# Altium footprint library pads.PcbLib: 11 footprints
Each footprint in its own frame and in the unit in brackets; x right, y up, seen from the top. Pads: shape width x height; smd on the part's side, far side on the other; paste and mask are expansions set on the pad; w line width, h text height; cw(c..) or ccw(c..) is an arc to the next point about the centre after c.
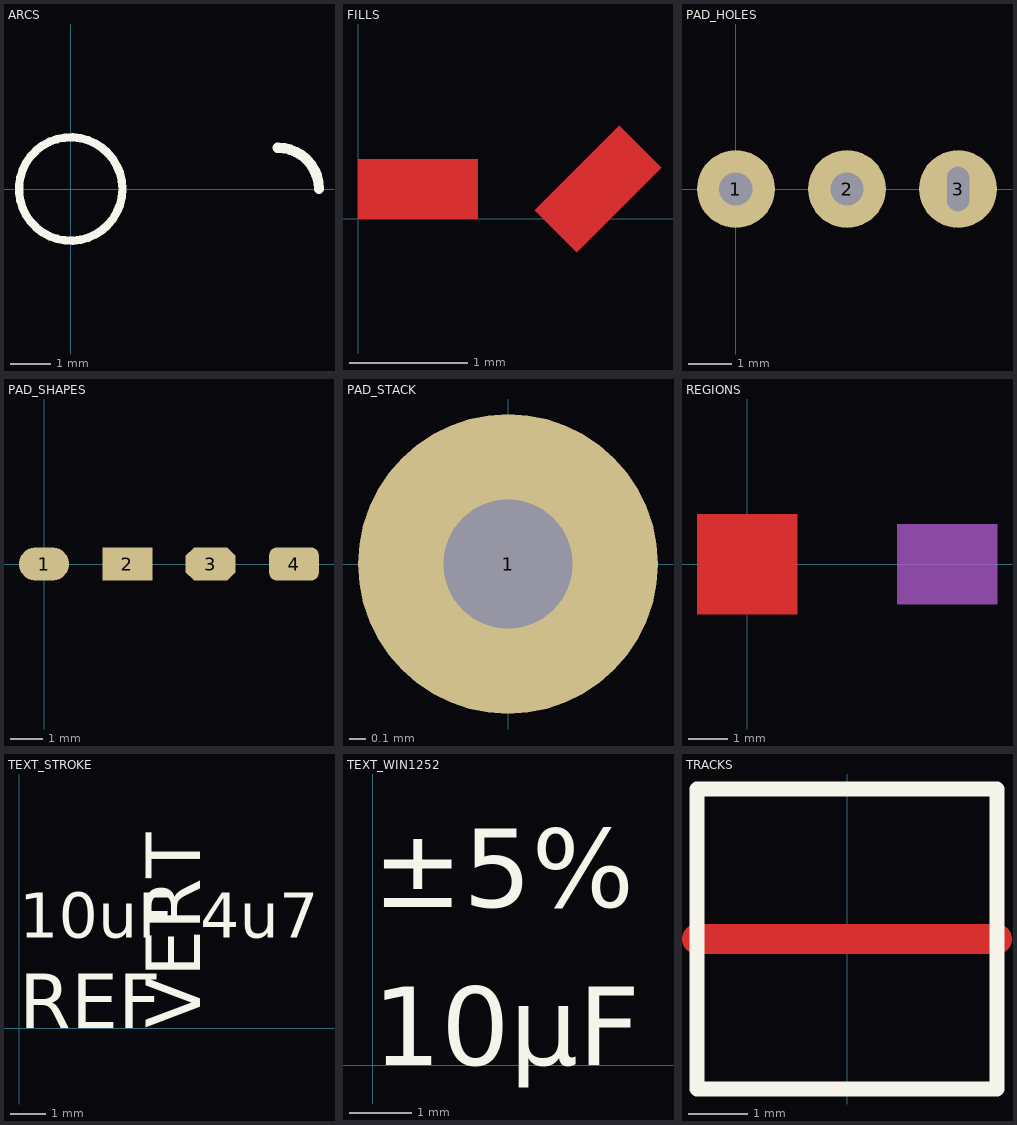
[diagram p0: the footprints below, top view; thin cyan lines are the x and y axes]

## ARCS [mil]
Top Overlay:
  circle w8: c0,0 r50
  lines w10: 200,40 cw(c200,0) 240,0

## BODY3D [mil]
3D body: height 40, standoff 0, extent -50,-30 50,30

## FILLS [mil]
Top Layer:
  rectangle: 0,0 40,20
  region: 72.93,-11.21 101.21,17.07 87.07,31.21 58.79,2.93

## PAD_HOLES [mil]
pads (3):
  round 70 hole 30: 1(0,0)
  round 70 hole 30 square: 2(100,0)
  round 70 hole 40 slot 20 at 0 deg: 3(200,0)

## PAD_SHAPES [mil]
pads (4):
  oval 60x40 smd: 1(0,0)
  rect 60x40 smd: 2(100,0)
  oct 60x40 smd: 3(200,0)
  rrect50% 60x40 smd: 4(300,0)

## PAD_STACK [mil]
pads (1):
  round 70 / inner round 60 / far side rect 50x50 hole 30: 1(0,0)

## REGIONS [mil]
Top Layer:
  region: -50,50 -50,-50 50,-50 50,50
Mechanical 1:
  region: 150,40 150,-40 250,-40 250,40

## TEXT_STROKE [mil]
Top Overlay:
  text "REF" at 0,0 h60
  text "10uF" at 0,100 h50
  text "VERT" at 200,0 h60
  text "4u7" at 200,100 h50

## TEXT_WIN1252 [mil]
Top Overlay:
  text "±5%" at 0,100 h50
  text "10µF" at 0,0 h50

## TRACKS [mil]
Top Layer:
  lines w20: -100,0 100,0
Top Overlay:
  lines w10: -100,-100 100,-100 100,100 -100,100 -100,-100

## VIAS [mil]
via 0,0 diameter 24 hole 12
via 80,0 diameter 40 hole 20